# EAGLE library part 662014236022 (library Wire-to-Board (rev18a))
WR-MPC3 3.00mm Male Dual Row SMT Angled Header with Plastic Pegs, 14 Pins=>Code : Con_WTB_MPC3_2_PCB_SMT_662014236022 <http://katalog.we-online.de/media/thumbs2/eican/thb_Con_WTB_MPC3_2_PCB_SMT_6620xx236022_pf2.jpg> Details see: http://katalog.we-online.de/en/em/MPC3_3_00_SMT_MALE_DUAL_ROW_ANGLED_HEADER_W_PLASTIC_PEGS_6621XX236022 Created 2014-06-06, Karrer Zheng 2014 (C) Würth Elektronik
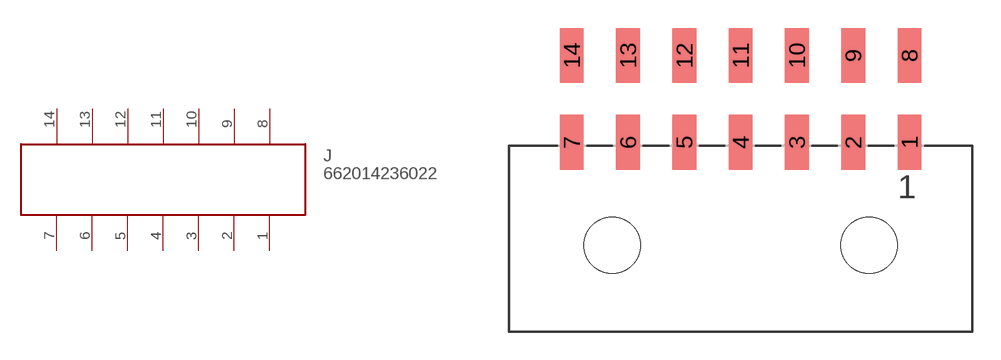
[diagram p373: symbol with the pads of 662014236022; footprint 662014236022]

Designator prefix J

## 662014236022  [662014236022]
1  1
2  2
3  3
4  4
5  5
6  6
7  7
8  8
9  9
10  10
11  11
12  12
13  13
14  14

## Footprint 662014236022 (pad centres in mm)
WR-MPC3 3.00mm Male Dual Row SMT Angled Header with Plastic Pegs, 14 Pins
smd 1.27 x 2.92: 1 9,5.48; 2 6,5.48; 3 3,5.48; 4 0,5.48; 5 -3,5.48; 6 -6,5.48; 7 -9,5.48; 8 9,10.1; 9 6,10.1; 10 3,10.1; 11 0,10.1; 12 -3,10.1; 13 -6,10.1; 14 -9,10.1
hole 3 at 6.84,0
hole 3 at -6.84,0